# Altium integrated library 4-1393789-7.IntLib: 1 symbol
Pins are listed as number, name and electrical type; pins without a type are passive.

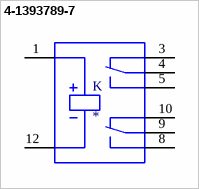
[diagram p0: symbol 4-1393789-7]

## 4-1393789-7
designator K
General Purpose Relay DPDT (2 Form C) Surface Mount; MP: 4-1393789-7; MF: TE Connectivity; Package: None; Value: *; Availability: Unavailable; SnapEDA_Link: https://www.snapeda.com/parts/4-1393789-7/TE%20Connectivity%20Potter%20&%20Brumfield%20Relays/view-part/376360/?ref=snap; Price: None
footprint RELAY_4-1393789-7
pins: 1, 3, 4, 5, 8, 9, 10, 12